# Altium schematic symbol library 6TQ045S Diode.SchLib: 2 symbols
Pins are listed as number, name and electrical type; pins without a type are passive.

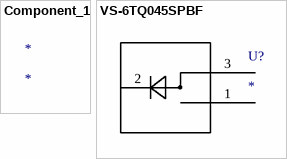
[diagram p0: symbols Component_1 to VS-6TQ045SPBF]

## Component_1
designator *

## VS-6TQ045SPBF
designator U?
Imported; Manufacturer_Part_Number: VS-6TQ045SPBF; Vendor: Vishay; Built_By: EMA_UL_Team; C: Copyright (C) 2015 Accelerated Designs. All rights reserved; RefDes: RefDes; Type: DEV; Value: Value
footprint D2PAK
pins: 1, 2, 3